# EAGLE library part 693023010811 (library WR-CRD)
WR-CRD SIM Card Connectors Characteristics Available in three form factors: Mini, Micro and Nano Available in three entry types: Push-Pull, Hinge and Push-Push Compatible with SIM and MegaSIM standards Applications Mobile Broadband Communication Internet of Things Fleet Management Security and Authentication Machine-to-Machine Communication <https://www.we-online.com/components/media/o732987v209%20693021020811_Multi-parts.jpg> Details see: www.we-online.com/components/products/WR_CRD_CARD_CONNECTOR_SIM <www.we-online.com/catalog/WR_CRD_CARD_CONNECTOR_SIM/?utm_source=eagle_model&utm_medium=description_link&utm_campaign=eisos_eagle> Updated by Ella Wu 2021-05-27 2021 (C) Würth Elektronik
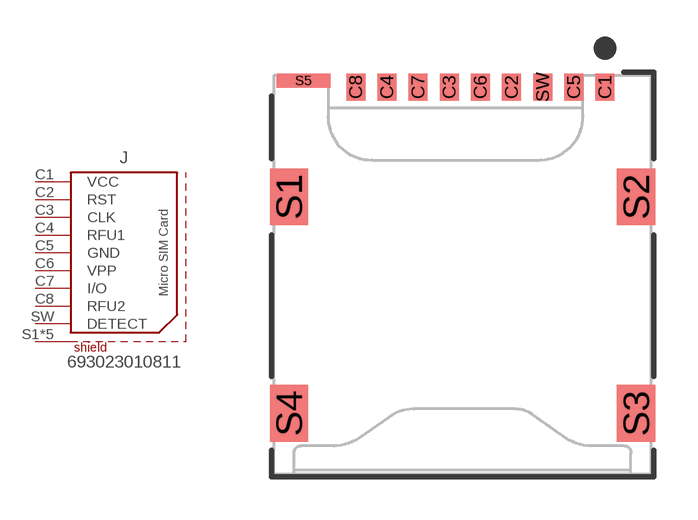
[diagram p9: symbol with the pads of 693023010811; footprint 693023010811]

Designator prefix J

## 693023010811 (DATASHEET-URL: https://www.we-online.com/redexpert/spec/693023010811?ae; DURABILITY: 5000 Mating cycles; GERDER: Socket; MOUNT: SMT; PART-NUMBER: 693023010811; PINS: 8pcs; SIZE: Micro SIM; TYPE: Push & Pull; VALUE: 693023010811)  [693023010811]
C1  VCC  pas
C2  RST  pas
C3  CLK  pas
C4  RFU1  pas
C5  GND  pas
C6  VPP  pas
C7  I/O  pas
C8  RFU2  pas
S1  SHIELD  pas
S2  SHIELD  pas
S3  SHIELD  pas
S4  SHIELD  pas
S5  SHIELD  pas
SW  DETECT  pas

## Footprint 693023010811 (pad centres in mm)
WR-CRD Micro SIM Card Connector Push & Pull with Card Detection
smd 0.67 x 0.95: C1 5.03,6.625; C2 1.73,6.625; C3 -0.47,6.625; C4 -2.67,6.625; C5 3.93,6.625; C6 0.63,6.625; C7 -1.57,6.625; C8 -3.77,6.625; SW 2.83,6.625
smd 1.35 x 2: S1 -6.13,2.75; S2 6.13,2.75; S3 6.13,-4.9; S4 -6.13,-4.9
smd 1.89 x 0.5: S5 -5.615,6.85